# EAGLE library part 256-504 (library con-wago_256)
Serie 256, Klemmenleiste für Leiterplatten 2 Lötstifte/Pol / Series 256, PCB terminal strip 2 solder pins/pole Polzahl / Pole No.: 4 Rastermaß / Pitch: 7.62 mm Bemessungsspannung / Rated Voltage: 320 V Nennstrom / Nominal Current: 24 A Leiterquerschnitt / Conductor Size: 0.08 - 2.5 mm² Anschlusstechnik / Connection Technology: CAGE CLAMP® Lötstiftlänge: / Solder Pin Length: 4 mm Leitereinführung (zur Platine) / Conductor entry angle (to PCB): 45 ° Farbe / Color: grau / gray Stand: 01.01.2012. Die jeweils aktuellen Daten zu diesem Artikel finden Sie in unserem Produktkatalog, den Sie unter www.wago.com einsehen können. As of: 01/01/2012. Please find the newest data for this article in our product catalogue, which can be viewed under www.wago.com.
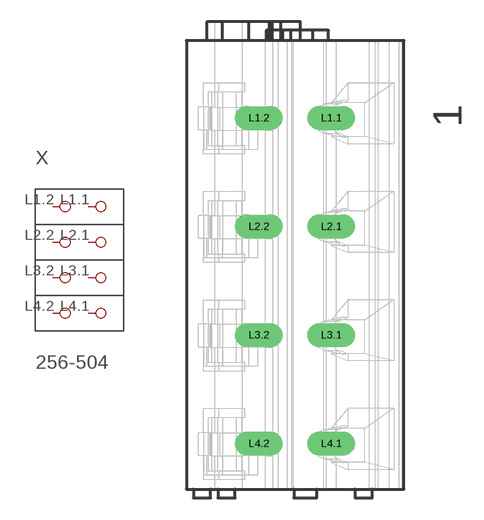
[diagram p14: symbol with the pads of P-256-504; footprint P-256-504]

Designator prefix X

## 256-504  [P-256-504]
L1.1  P1.1
L1.2  P1.2
L2.1  P2.1
L2.2  P2.2
L3.1  P3.1
L3.2  P3.2
L4.1  P4.1
L4.2  P4.2

## Footprint P-256-504 (pad centres in mm)
drill 1.1 long: L1.1 2.485,9.8; L1.2 -2.515,9.8; L2.1 2.485,2.3; L2.2 -2.515,2.3; L3.1 2.485,-5.2; L3.2 -2.515,-5.2; L4.1 2.485,-12.7; L4.2 -2.515,-12.7